# Altium footprint library CON1_TH_PLUS_LAPJOINT_16AWG.PcbLib: 1 footprints
Each footprint in its own frame and in the unit in brackets; x right, y up, seen from the top. Pads: shape width x height; smd on the part's side, far side on the other; paste and mask are expansions set on the pad; w line width, h text height; cw(c..) or ccw(c..) is an arc to the next point about the centre after c.
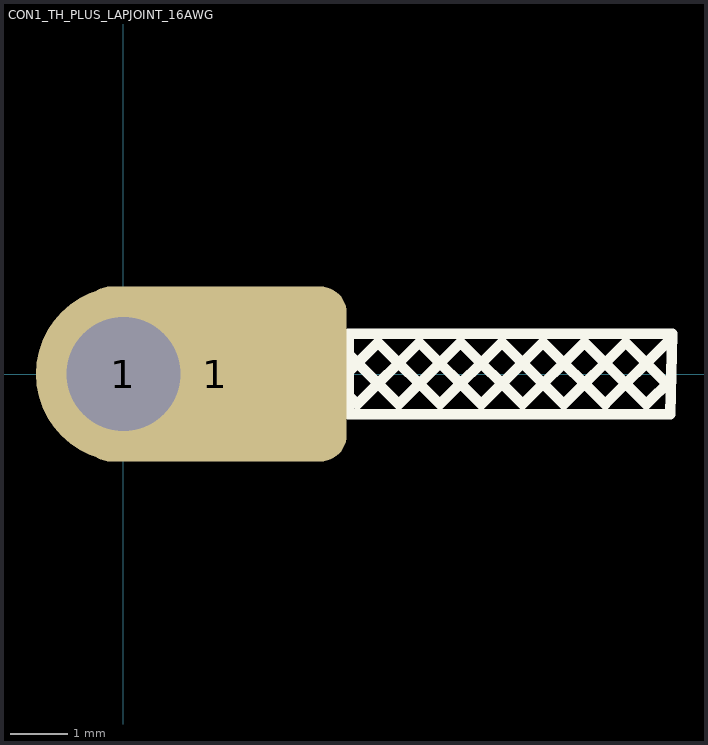
[diagram p0: the footprint, top view; thin cyan lines are the x and y axes]

## CON1_TH_PLUS_LAPJOINT_16AWG [mil]
pads (2):
  round 120 hole 78: 1(0,0)
  rrect30% 180x120 smd paste-999 mask-10: 1(62.99,0)
Top Overlay:
  lines w7: 154.34,-14.83 160.35,-20.84 ; 154.34,1.52 174.27,21.45 ; 154.34,13.45 188.64,-20.84 ; 174.62,21.45 216.92,-20.84 ; 188.54,-20.84 230.84,21.45 ; 202.91,21.45 245.21,-20.84 ; 216.83,-20.84 259.12,21.45 ; 231.19,21.45 273.49,-20.84 ; 245.11,-20.84 287.41,21.45 ; 259.48,21.45 301.77,-20.84 ; 273.4,-20.84 315.69,21.45 ; 287.76,21.45 330.06,-20.84 ; 301.68,-20.84 343.98,21.45 ; 316.05,21.45 358.34,-20.84 ; 329.96,-20.84 372.26,21.45 ; 344.33,21.45 375.11,-9.33 ; 358.25,-20.84 375.24,-3.85 ; 372.61,21.45 375.77,18.3 ; 154.34,-27.56 374.68,-27.56 375.99,27.56 154.34,27.56 154.34,-27.56 ; 160.26,-20.84 202.56,21.45 160.26,-20.84